# Altium schematic symbol library SCH - DIODES - TVS - DUAL CHANNEL HIGH SPEED.SCHLIB: 1 symbol
Pins are listed as number, name and electrical type; pins without a type are passive.

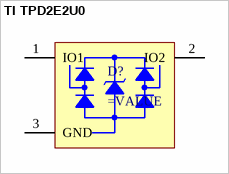
[diagram p0: symbol TI TPD2E2U0]

## TI TPD2E2U0
designator D?
pins: 1 IO1, 2 IO2, 3 GND